# Altium schematic symbol library schematics_library_legacy.schlib: 96 symbols (part 2 of 4)
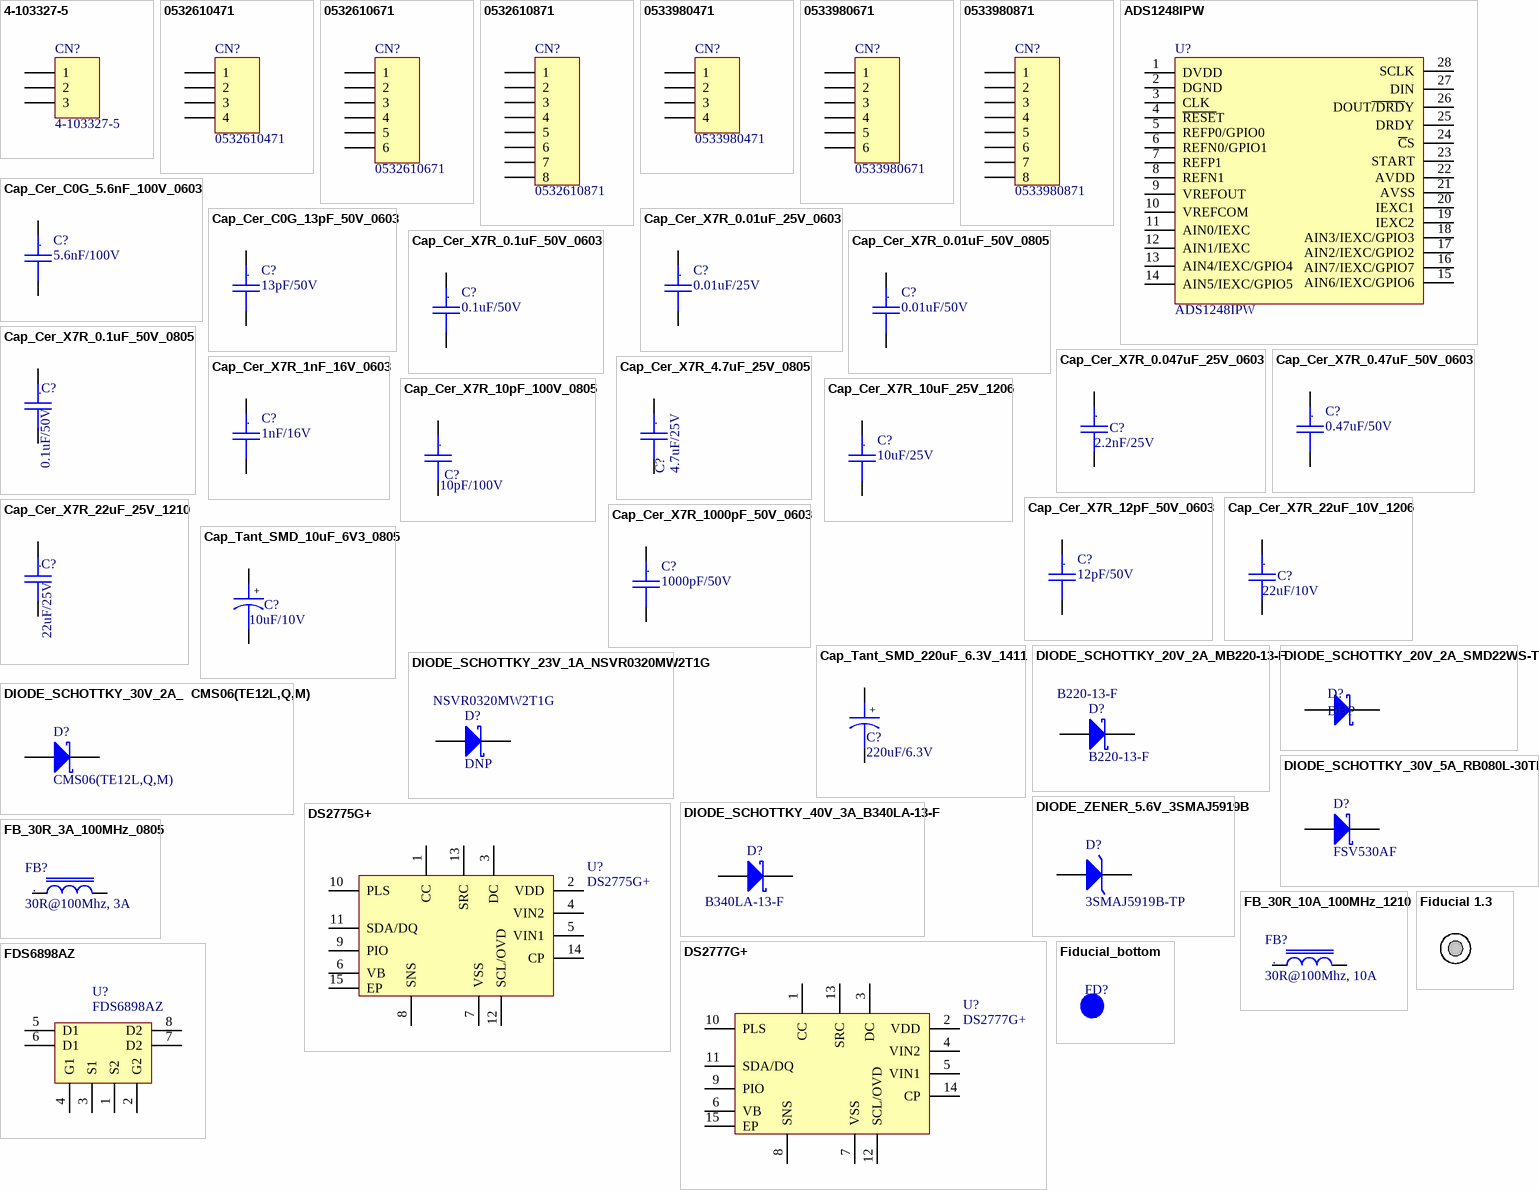
[diagram p3: symbols 4-103327-5 to Fiducial_bottom]

## Cap_Cer_X7R_22uF_25V_1210
designator C?, comment 22uF/25V
CAP CER 22uF 25V 10% X7R 1210; Partnumber: GRM32ER71E226KE15L; Manufacturer: Murata; Material: Ceramic; Supplier 1: Mouser; Supplier Part Number 1: 81-GRM32ER71E226KE5L; Stock 1: 169862; Pricing 1: 1=1.96, 10=1.54, 25=1.54, 100=1.15, 250=1.15, 500=0.876 (USD); Mount: Surface Mount; Case/Package: 1210; Number of Pins: 2; Case Code (Metric): 3225; Case Code (Imperial): 1210; Min Operating Temperature: -55°C; Max Operating Temperature: 125°C; Capacitance: 22uF; Tolerance: 10%; Dielectric: X7R; Voltage Rating: 25V; Packaging: Tape and Reel; Package Quantity: 1; Voltage Rating (DC): 25V; Termination: SMD/SMT; Voltage: 25V; Length: 3.2mm; Height: 2.5mm; Width: 0.098inch; Thickness: 0.106inch; Depth: 2.5mm; Radiation Hardening: No; REACH SVHC: No SVHC; Lead Free: Lead Free; ComponentLink1URL: http://www.farnell.com/datasheets/2048964.pdf?src-supplier=Farnell; ComponentLink1Description: http://www.farnell.com/datasheets/2048964.pdf?src-supplier=Farnell; ComponentLink2URL: http://psearch.murata.com/capacitor/product/GRM32ER71E226KE15%23.pdf?src-supplier=Future+Electronics; ComponentLink2Description: http://psearch.murata.com/capacitor/product/GRM32ER71E226KE15%23.pdf?src-supplier=Future+Electronics; ComponentLink3URL: https://www.murata.com/~/media/webrenewal/support/library/catalog/products/capacitor/mlcc/c02e.ashx?la=en-us&src-supplier=Digi-Key; ComponentLink3Description: https://www.murata.com/~/media/webrenewal/support/library/catalog/products/capacitor/mlcc/c02e.ashx?la=en-us&src-supplier=Digi-Key; ComponentLink4URL: http://components.arrow.com/part/dataview/47905228S8888111N2606?src-supplier=Arrow; ComponentLink4Description: http://components.arrow.com/part/dataview/47905228S8888111N2606?src-supplier=Arrow; ComponentLink5URL: http://www.farnell.com/datasheets/2048964.pdf?src-supplier=Element14; ComponentLink5Description: http://www.farnell.com/datasheets/2048964.pdf?src-supplier=Element14; ComponentLink6URL: http://uk.rs-online.com/webdocs/13d2/0900766b813d2caa.pdf?src-supplier=RSComponents; ComponentLink6Description: http://uk.rs-online.com/webdocs/13d2/0900766b813d2caa.pdf?src-supplier=RSComponents; ComponentLink7URL: https://produktinfo.conrad.com/datenblaetter/450000-474999/451826-da-01-de-VS_KONDENS_GRM32_ER71E_226KE15L.pdf?src-supplier=Conrad; ComponentLink7Description: https://produktinfo.conrad.com/datenblaetter/450000-474999/451826-da-01-de-VS_KONDENS_GRM32_ER71E_226KE15L.pdf?src-supplier=Conrad; Supplier 2: Digi-Key; Supplier Part Number 2: 490-5313-1-ND; Stock 2: 0; Pricing 2: 1=1.87, 10=1.479, 50=1.2816, 100=1.1091, 500=0.83802 (USD); Manufacturer Part Number: GRM32ER71E226KE15L
footprint CC1210 (TDK mlccspec_commercial_general_midvoltage_en.pdf)
pins: 1, 2
text: .

## Cap_Cer_X7R_1000pF_50V_0603
designator C?, comment 1000pF/50V
CAP CER 1000pF 50V 10% X7R 0603; Partnumber: CC0603KRX7R9BB102; Manufacturer: Yageo; Material: Ceramic; Capacitance: 1nF; Insulation Resistance: 100GR; NCM: 8532.24.10; Supplier 1: Mouser; Supplier Part Number 1: 603-CC603KRX7R9BB102; Stock 1: 411776; Pricing 1: 1=0.1, 10=0.039, 100=0.018, 1000=0.014, 4000=0.01, 8000=0.008 (USD); Mount: Surface Mount; Case/Package: 0603; Number of Pins: 2; Case Code (Metric): 1608; Case Code (Imperial): 0603; Min Operating Temperature: -55°C; Max Operating Temperature: 125°C; Tolerance: 10%; Dielectric: X7R; Voltage: 50V; Package Quantity: 1; Voltage Rating: 50V; Packaging: Tape and Reel; Voltage Rating (DC): 50V; Termination: SMD/SMT; Composition: Ceramic; Length: 1.6mm; Height: 0.8mm; Width: 0.031inch; Thickness: 0.035inch; Depth: 0.8mm; Radiation Hardening: No; REACH SVHC: No SVHC; Lead Free: Lead Free; Halogen Free: Halogen Free; ComponentLink1URL: http://www.yageo.com/documents/recent/UPY-GPHC_X7R_6.3V-to-50V_18.pdf?src-supplier=Digi-Key; ComponentLink1Description: http://www.yageo.com/documents/recent/UPY-GPHC_X7R_6.3V-to-50V_18.pdf?src-supplier=Digi-Key; ComponentLink2URL: http://www.yageo.com/documents/recent/UPY-GPHC_X7R_6.3V-to-50V_8.pdf?src-supplier=Avnet+Europe; ComponentLink2Description: http://www.yageo.com/documents/recent/UPY-GPHC_X7R_6.3V-to-50V_8.pdf?src-supplier=Avnet+Europe; ComponentLink3URL: https://www.verical.com/server-webapp/html/getDatasheet?partID=251790&src-supplier=Verical; ComponentLink3Description: https://www.verical.com/server-webapp/html/getDatasheet?partID=251790&src-supplier=Verical; ComponentLink4URL: http://www.farnell.com/datasheets/2167236.pdf?src-supplier=Element14; ComponentLink4Description: http://www.farnell.com/datasheets/2167236.pdf?src-supplier=Element14; ComponentLink5URL: https://produktinfo.conrad.com/datenblaetter/425000-449999/445532-da-01-en-KERKO_CHIP_0603_NP0_1000PF.pdf?src-supplier=Conrad; ComponentLink5Description: https://produktinfo.conrad.com/datenblaetter/425000-449999/445532-da-01-en-KERKO_CHIP_0603_NP0_1000PF.pdf?src-supplier=Conrad; Supplier 2: Digi-Key; Supplier Part Number 2: 311-1080-1-ND; Stock 2: 2512329; Pricing 2: 1=0.1, 10=0.042, 50=0.0232, 100=0.0189, 500=0.01352, 1000=0.01062 (USD); Manufacturer Part Number: CC0603KRX7R9BB102
footprint CC0603 (TDK mlccspec_commercial_general_midvoltage_en.pdf)
pins: 1, 2
text: .

## Cap_Tant_SMD_10uF_6V3_0805
designator C?, comment 10uF/10V
CAP Tantalum 10uF 6.3V 10% 0805; Partnumber: TPSR106K006R1000; Manufacturer: Kyocera AVX; ESR (Equivalent Series Resistance): 1R; Polarity: Polar; Dissipation Factor: 8%; NCM: 8532.21.11; Supplier 1: Mouser; Supplier Part Number 1: 581-TPSR106K006R1000; Stock 1: 0; Pricing 1: 1=0.76, 10=0.561, 100=0.384, 500=0.304, 1000=0.256, 2500=0.237 (USD); Mount: Surface Mount; Case/Package: 0805; Case Code (Metric): 2012; Case Code (Imperial): 0805; Dielectric Material: Tantalum; Min Operating Temperature: -55°C; Max Operating Temperature: 125°C; Capacitance: 10uF; Tolerance: 10%; Voltage Rating: 6.3V; Packaging: Tape and Reel; Package Quantity: 1; Termination: SMD/SMT; Features: General Purpose; Length: 2.05mm; Height: 1.2mm; Depth: 1.3mm; Width: 0.051inch; Height - Seated (Max): 0.047inch; Radiation Hardening: No; REACH SVHC: No SVHC; Lead Free: Lead Free; ComponentLink1URL: http://www.avx.com/docs/Catalogs/packmark.pdf?src-supplier=Element14; ComponentLink1Description: http://www.avx.com/docs/Catalogs/packmark.pdf?src-supplier=Element14; ComponentLink2URL: http://www.farnell.com/datasheets/1441576.pdf?src-supplier=Element14; ComponentLink2Description: http://www.farnell.com/datasheets/1441576.pdf?src-supplier=Element14; ComponentLink3URL: http://datasheets.avx.com/TPS.pdf?src-supplier=Digi-Key; ComponentLink3Description: http://datasheets.avx.com/TPS.pdf?src-supplier=Digi-Key; Supplier 2: Digi-Key; Supplier Part Number 2: 478-9265-1-ND; Stock 2: 0; Pricing 2: 1=0.73, 10=0.536, 50=0.429, 100=0.3678, 500=0.29114, 1000=0.24517 (USD); Manufacturer Part Number: TPSR106K006R1000
footprint CC0805_Tantalum (TDK mlccspec_commercial_general_midvoltage_en.pdf)
pins: 1, 2
text: +

## Cap_Tant_SMD_220uF_6.3V_1411
designator C?, comment 220uF/6.3V
CAP Tantalum 220uF 6.3V 20% 1411; Partnumber: 6TPE220MAZB; Manufacturer: Panasonic; ESR (Equivalent Series Resistance): 35mR; Ripple Current: 1.4A; Leakage Current: 138.6uA; Polarity: Polar; Dissipation Factor: 10%; NCM: 8532.21.11; Supplier 1: Mouser; Supplier Part Number 1: 667-6TPE220MAZB; Stock 1: 11237; Pricing 1: 1=1.63, 10=1.28, 100=0.964, 500=0.728, 1000=0.642, 2000=0.521 (USD); Mount: Surface Mount; Case/Package: Molded; Number of Pins: 2; Case Code (Metric): 3528; Case Code (Imperial): 1411; Min Operating Temperature: -55°C; Max Operating Temperature: 105°C; Capacitance: 220uF; Tolerance: 20%; Packaging: Tape and Reel; Voltage Rating: 6.3V; Package Quantity: 2000; Voltage Rating (DC): 6.3V; Termination: SMD/SMT; Voltage: 6.3V; Features: General Purpose; Length: 3.5mm; Height: 1.9mm; Width: 0.11inch; Height - Seated (Max): 0.079inch; Depth: 2.8mm; Radiation Hardening: No; REACH SVHC: No SVHC; Lead Free: Lead Free; ComponentLink1URL: http://www.farnell.com/datasheets/2059638.pdf?src-supplier=Element14; ComponentLink1Description: http://www.farnell.com/datasheets/2059638.pdf?src-supplier=Element14; ComponentLink2URL: https://www.verical.com/server-webapp/html/getDatasheet?partID=733772&src-supplier=Verical; ComponentLink2Description: https://www.verical.com/server-webapp/html/getDatasheet?partID=733772&src-supplier=Verical; ComponentLink3URL: https://www.distrelec.biz/Web/Downloads/_t/ds/tpe-series_eng_tds.pdf?mime=application%2Fpdf&src-supplier=Distrelec; ComponentLink3Description: https://www.distrelec.biz/Web/Downloads/_t/ds/tpe-series_eng_tds.pdf?mime=application%2Fpdf&src-supplier=Distrelec; ComponentLink4URL: http://industrial.panasonic.com/www-data/pdf/AAA8000/AAA8000CE5.pdf?src-supplier=Avnet; ComponentLink4Description: http://industrial.panasonic.com/www-data/pdf/AAA8000/AAA8000CE5.pdf?src-supplier=Avnet; ComponentLink5URL: http://www.mouser.com/ds/2/315/AAA8000C36-947358.pdf?src-supplier=Mouser; ComponentLink5Description: http://www.mouser.com/ds/2/315/AAA8000C36-947358.pdf?src-supplier=Mouser; Supplier 2: Digi-Key; Supplier Part Number 2: P16245CT-ND; Stock 2: 59078; Pricing 2: 1=1.56, 10=1.23, 50=1.0656, 100=0.9222, 500=0.69676, 1000=0.61479 (USD); Manufacturer Part Number: 6TPE220MAZB
footprint CC1411 _Tantalum
pins: 1, 2
text: +

## DIODE_SCHOTTKY_20V_2A_MB220-13-F
designator D?, comment B220-13-F
DIODE SCHOTTKY 20V 2A B220-13-F; Manufacturer: Diodes; Peak Reverse Current: 500uA; Peak Non-Repetitive Surge Current: 50A; Element Configuration: Single; Forward Voltage: 500mV; Polarity: Standard; Capacitance: 200pF; NCM: 8541.10.29; Partnumber: B220-13-F; Supplier 1: Mouser; Supplier Part Number 1: 621-B220-F; Stock 1: 3454; Pricing 1: 1=0.45, 10=0.289, 100=0.124, 1000=0.095, 3000=0.072, 9000=0.064 (USD); Mount: Surface Mount; Case/Package: SMB; Number of Pins: 2; Weight: 0.00328oz; Contact Plating: Tin,Matte; Min Operating Temperature: -65°C; Max Operating Temperature: 150°C; Forward Current: 2A; Max Repetitive Reverse Voltage (Vrrm): 20V; Package Quantity: 3000; Packaging: Tape and Reel; Average Rectified Current: 2A; Max Forward Surge Current (Ifsm): 50A; Termination: SMD/SMT; Voltage Rating (DC): 20V; Current Rating: 2A; Output Current: 2A; Max Reverse Voltage (DC): 20V; Length: 4.57mm; Height: 2.62mm; Width: 3.94mm; Radiation Hardening: No; REACH SVHC: No SVHC; Lead Free: Lead Free; ComponentLink1URL: http://www.diodes.com/datasheets/ds13004.pdf?src-supplier=Future+Electronics; ComponentLink1Description: http://www.diodes.com/datasheets/ds13004.pdf?src-supplier=Future+Electronics; ComponentLink2URL: http://www.diodes.com/datasheets/ds13004.pdf?src-supplier=Avnet; ComponentLink2Description: http://www.diodes.com/datasheets/ds13004.pdf?src-supplier=Avnet; Supplier 2: Digi-Key; Supplier Part Number 2: B220-FDICT-ND; Stock 2: 5768; Pricing 2: 1=0.46, 10=0.339, 25=0.2968, 100=0.1612, 250=0.16036, 500=0.1315, 1000=0.09757 (USD); Manufacturer Part Number: B220-13-F
footprint DO-214AA
pins: 1 K, 2 A

## DIODE_SCHOTTKY_20V_2A_SMD22WS-TP
designator D?, comment DNP
Diode Schottky 20 V 2A Surface Mount SOD-323; Partnumber: SMD22WS-TP
footprint SOD323F
pins: 1 K, 2 A

## DIODE_SCHOTTKY_23V_1A_NSVR0320MW2T1G
designator D?, comment DNP  Manufacturer Part Number: NSVR0320MW2T1G
DIODE SCHOTTKY 23V 1A SOD323F; Manufacturer: ON Semiconductor; Peak Reverse Current: 50uA; Forward Voltage: 500mV; Max Surge Current: 5A; Max Reverse Leakage Current: 1mA; Max Repetitive Reverse Voltage (Vrrm): 20V; Element Configuration: Single; NCM: 8541.10.29; Partnumber: NSVR0320MW2T1G; Supplier 1: Mouser; Supplier Part Number 1: 863-NSVR0320MW2T1G; Stock 1: 10408; Pricing 1: 1=0.38, 10=0.254, 100=0.118, 1000=0.092, 3000=0.081, 9000=0.071 (USD); Case/Package: SOD-323-2; Number of Pins: 2; Min Operating Temperature: -55°C; Max Operating Temperature: 125°C; Forward Current: 1A; Package Quantity: 3000; Packaging: Tape and Reel; Average Rectified Current: 1A; Max Forward Surge Current (Ifsm): 5A; Max Reverse Voltage (DC): 20V; Length: 1.8mm; Height: 0.9mm; Width: 1.35mm; Radiation Hardening: No; REACH SVHC: No SVHC; Lead Free: Lead Free; ComponentLink1URL: http://www.onsemi.com/pub/Collateral/NSR0320MW2T1-D.PDF?src-supplier=Avnet; ComponentLink1Description: http://www.onsemi.com/pub/Collateral/NSR0320MW2T1-D.PDF?src-supplier=Avnet; ComponentLink2URL: http://www.onsemi.com/pub/Collateral/NSR0320MW2T1-D.PDF?src-supplier=Digi-Key; ComponentLink2Description: http://www.onsemi.com/pub/Collateral/NSR0320MW2T1-D.PDF?src-supplier=Digi-Key; Supplier 2: Digi-Key; Supplier Part Number 2: NSVR0320MW2T1GOSCT-ND; Stock 2: 4746; Pricing 2: 1=0.38, 10=0.282, 25=0.2548, 100=0.1343, 250=0.13288, 500=0.119, 1000=0.0926 (USD)
footprint SOD323F
pins: 1 K, 2 A

## DIODE_SCHOTTKY_30V_2A_  CMS06(TE12L,Q,M)
designator D?, comment CMS06(TE12L,Q,M)
DIODE SCHOTTKY 30V 2A   CMS06(TE12L,Q,M); Manufacturer: Toshiba; Peak Reverse Current: 3mA; Max Surge Current: 40A; Forward Voltage: 370mV; Element Configuration: Single; NCM: 8541.10.29; Partnumber: CMS06(TE12L,Q,M); Supplier 1: Mouser; Supplier Part Number 1: 757-CMS06TE12L,Q,M; Stock 1: 121; Pricing 1: 1=0.54, 10=0.464, 100=0.321, 500=0.25, 1000=0.203, 3000=0.186 (USD); Mount: Surface Mount; Number of Pins: 2; Contact Plating: Tin,Silver; Min Operating Temperature: -40°C; Max Operating Temperature: 125°C; Package Quantity: 1; Packaging: Tape and Reel; Forward Current: 2A; Average Rectified Current: 2A; Max Reverse Leakage Current: 3mA; Max Repetitive Reverse Voltage (Vrrm): 30V; Peak Non-Repetitive Surge Current: 40A; Max Reverse Voltage (DC): 30V; Radiation Hardening: No; ComponentLink1URL: http://toshiba.semicon-storage.com/info/docget.jsp?did=3138&prodName=CMS06&src-supplier=Digi-Key; ComponentLink1Description: http://toshiba.semicon-storage.com/info/docget.jsp?did=3138&prodName=CMS06&src-supplier=Digi-Key; ComponentLink2URL: http://www.semicon.toshiba.com.tw/info/docget.jsp?pid=CMS06&lang=en&type=datasheet&src-supplier=Avnet; ComponentLink2Description: http://www.semicon.toshiba.com.tw/info/docget.jsp?pid=CMS06&lang=en&type=datasheet&src-supplier=Avnet; ComponentLink3URL: http://datasheet.iiic.cc/toshiba/CMS06_TE12L,Q,M_.pdf?src-supplier=IIIC; ComponentLink3Description: http://datasheet.iiic.cc/toshiba/CMS06_TE12L,Q,M_.pdf?src-supplier=IIIC; Supplier 2: Digi-Key; Supplier Part Number 2: CMS06QMCT-ND; Stock 2: 29658; Pricing 2: 1=0.53, 10=0.45, 25=0.42, 100=0.312, 250=0.2964, 500=0.2436, 1000=0.198 (USD); Manufacturer Part Number: CMS06(TE12L,Q,M)
footprint cms06
pins: 1 K, 2 A

## DIODE_SCHOTTKY_30V_5A_RB080L-30TE25
designator D?, comment FSV530AF
DIODE SCHOTTKY 30V 5A DO-214AA; Manufacturer: ON Semiconductor / Fairchild; Reverse Recovery Time: 15.72ns; Element Configuration: Single; Max Forward Surge Current (Ifsm): 100A; NCM: 8541.10.29; Partnumber: FSV530AF; Supplier 1: Mouser; Supplier Part Number 1: 512-FSV530AF; Stock 1: 19843; Pricing 1: 1=0.47, 10=0.348, 100=0.202, 1000=0.137, 2500=0.121, 10000=0.117 (USD); Mount: Surface Mount; Weight: 0.33g; Packaging: Cut Tape; Average Rectified Current: 5A; Max Repetitive Reverse Voltage (Vrrm): 30V; Max Reverse Voltage (DC): 30V; Lead Free: Lead Free; ComponentLink1URL: https://www.fairchildsemi.com/datasheets/FS/FSV530AF.pdf?src-supplier=Digi-Key; ComponentLink1Description: https://www.fairchildsemi.com/datasheets/FS/FSV530AF.pdf?src-supplier=Digi-Key; ComponentLink2URL: http://www.farnell.com/datasheets/2552640.pdf?src-supplier=Farnell; ComponentLink2Description: http://www.farnell.com/datasheets/2552640.pdf?src-supplier=Farnell; ComponentLink3URL: http://www.farnell.com/datasheets/2552640.pdf?src-supplier=Element14; ComponentLink3Description: http://www.farnell.com/datasheets/2552640.pdf?src-supplier=Element14; Supplier 2: Digi-Key; Supplier Part Number 2: FSV530AFCT-ND; Stock 2: 9965; Pricing 2: 1=0.47, 10=0.381, 25=0.3484, 100=0.2187, 250=0.21628, 500=0.2025, 1000=0.1377, 2500=0.13203, 5000=0.1215 (USD); Manufacturer Part Number: FSV530AF
footprint DO-214AC
pins: 1 K, 2 A

## DIODE_SCHOTTKY_40V_3A_B340LA-13-F
designator D?, comment B340LA-13-F
DIODE SCHOTTKY 40V 3A B340LA-13-F; Manufacturer: Diodes; Peak Reverse Current: 2mA; Peak Non-Repetitive Surge Current: 70A; Element Configuration: Single; Forward Voltage: 450mV; Polarity: Standard; Capacitance: 180pF; NCM: 8541.10.29; Partnumber: B340LA-13-F; Supplier 1: Mouser; Supplier Part Number 1: 621-B340LA-F; Stock 1: 21204; Pricing 1: 1=0.51, 10=0.417, 100=0.255, 1000=0.197, 5000=0.168, 10000=0.168 (USD); Mount: Surface Mount; Case/Package: SMA; Number of Pins: 2; Weight: 0.002258oz; Min Operating Temperature: -55°C; Max Operating Temperature: 125°C; Forward Current: 3A; Max Repetitive Reverse Voltage (Vrrm): 40V; Packaging: Tape and Reel; Package Quantity: 5000; Average Rectified Current: 3A; Max Forward Surge Current (Ifsm): 70A; Termination: SMD/SMT; Voltage Rating (DC): 40V; Current Rating: 3A; Output Current: 3A; Max Reverse Voltage (DC): 40V; Length: 4.6mm; Height: 2.1mm; Width: 2.92mm; Radiation Hardening: No; REACH SVHC: No SVHC; Lead Free: Lead Free; ComponentLink1URL: http://www.farnell.com/datasheets/2238478.pdf?src-supplier=Element14; ComponentLink1Description: http://www.farnell.com/datasheets/2238478.pdf?src-supplier=Element14; ComponentLink2URL: http://www.diodes.com/datasheets/ds30240.pdf?src-supplier=Future+Electronics; ComponentLink2Description: http://www.diodes.com/datasheets/ds30240.pdf?src-supplier=Future+Electronics; ComponentLink3URL: http://www.jameco.com/Jameco/Products/ProdDS/1538881.pdf?src-supplier=Jameco; ComponentLink3Description: http://www.jameco.com/Jameco/Products/ProdDS/1538881.pdf?src-supplier=Jameco; ComponentLink4URL: https://www.diodes.com/assets/Datasheets/ds30240.pdf?src-supplier=Digi-Key; ComponentLink4Description: https://www.diodes.com/assets/Datasheets/ds30240.pdf?src-supplier=Digi-Key; ComponentLink5URL: https://www.verical.com/server-webapp/html/getDatasheet?partID=256588&src-supplier=Verical; ComponentLink5Description: https://www.verical.com/server-webapp/html/getDatasheet?partID=256588&src-supplier=Verical; Supplier 2: Digi-Key; Supplier Part Number 2: B340LA-FDICT-ND; Stock 2: 96615; Pricing 2: 1=0.4, 10=0.341, 25=0.318, 100=0.2363, 250=0.22452, 500=0.18452, 1000=0.14999, 2500=0.1409 (USD); Manufacturer Part Number: B340LA-13-F
footprint DO-214AC
pins: 1 K, 2 A

## DIODE_ZENER_5.6V_3SMAJ5919B
designator D?, comment 3SMAJ5919B-TP
DIODE ZENER 5.6V 3W DO214AC; Manufacturer: MCC; Tolerance: 5%; Impedance: 2R; Max Reverse Leakage Current: 5uA; Element Configuration: Single; Zener Current: 534mA; Partnumber: 3SMAJ5919B-TP; NCM: 8541.10.29; Supplier 1: Mouser; Supplier Part Number 1: 833-3SMAJ5919B-TP; Stock 1: 26433; Pricing 1: 1=0.48, 10=0.354, 100=0.225, 500=0.199, 1000=0.143, 2500=0.134 (USD); Mount: Surface Mount; Case/Package: SMA; Number of Pins: 2; Min Operating Temperature: -55°C; Max Operating Temperature: 150°C; Package Quantity: 7500; Packaging: Tape and Reel; Zener Voltage: 5.6V; Max Power Dissipation: 3W; Voltage Tolerance: 5%; Power Dissipation: 3W; ComponentLink1URL: http://www.mccsemi.com/up_pdf/3SMAJ5913B~3SMAJ5943B(DO-214AC).pdf?src-supplier=Digi-Key; ComponentLink1Description: http://www.mccsemi.com/up_pdf/3SMAJ5913B~3SMAJ5943B(DO-214AC).pdf?src-supplier=Digi-Key; Supplier 2: Digi-Key; Supplier Part Number 2: 3SMAJ5919B-TPMSCT-ND; Stock 2: 61482; Pricing 2: 1=0.46, 10=0.376, 25=0.344, 100=0.216, 250=0.2136, 500=0.2, 1000=0.136, 2500=0.1304 (USD); Manufacturer Part Number: 3SMAJ5919B-TP
footprint DO-214AC
pins: 1 K, 2 A

## DS2775G+
designator U?
IC FUEL GAUGE LI+ 2CELL 14-TDFN; Manufacturer: Maxim; Output Voltage: 4.7V; Operating Supply Current: 80uA; Min Supply Voltage: 4V; Max Supply Voltage: 9.2V; Interface: Serial; Partnumber: DS2775G+; Supplier 1: Mouser; Supplier Part Number 1: 700-DS2775G; Stock 1: 0; Mount: Surface Mount; Case/Package: DFN; Number of Pins: 14; Min Operating Temperature: -20°C; Max Operating Temperature: 70°C; Packaging: Rail/Tube; Package Quantity: 60; Radiation Hardening: No; REACH SVHC: Unknown; ComponentLink1URL: http://datasheets.maximintegrated.com/en/ds/DS2775-DS2778.pdf?src-supplier=Digi-Key; ComponentLink1Description: http://datasheets.maximintegrated.com/en/ds/DS2775-DS2778.pdf?src-supplier=Digi-Key; ComponentLink2URL: http://datasheets.maxim-ic.com/en/ds/DS2775-DS2778.pdf?src-supplier=Avnet+Europe; ComponentLink2Description: http://datasheets.maxim-ic.com/en/ds/DS2775-DS2778.pdf?src-supplier=Avnet+Europe; Supplier 2: Digi-Key; Supplier Part Number 2: DS2775G+-ND; Stock 2: 193; Pricing 2: 1=5.92, 10=5.35, 25=5.1008, 100=4.2299, 250=3.85672, 500=3.8256 (USD); Manufacturer Part Number: DS2775G+
footprint TDFN-14-EP_3x5 (Footprint not found)
pins: 1 CC, 2 VDD, 3 DC, 4 VIN2, 5 VIN1, 6 VB, 7 VSS, 8 SNS, 9 PIO, 10 PLS, 11 SDA/DQ, 12 SCL/OVD, 13 SRC, 14 CP, 15 EP

## DS2777G+
designator U?
Battery Management 2-Cell, Stand-Alone, Li+ Fuel-Gauge IC with Protector and Optional SHA-1 Authentication; Manufacturer: Maxim; Manufacturer Part Number: DS2775G+; Output Voltage: 4.7V; Operating Supply Current: 80uA; Min Supply Voltage: 4V; Max Supply Voltage: 9.2V; Interface: Serial; Partnumber: DS2777G+; Supplier 1: Mouser; Supplier Part Number 1: 700-DS2775G; Stock 1: 0; Mount: Surface Mount; Case/Package: DFN; Number of Pins: 14; Min Operating Temperature: -20°C; Max Operating Temperature: 70°C; Packaging: Rail/Tube; Package Quantity: 60; Radiation Hardening: No; REACH SVHC: Unknown; ComponentLink1URL: http://datasheets.maximintegrated.com/en/ds/DS2775-DS2778.pdf?src-supplier=Digi-Key; ComponentLink1Description: http://datasheets.maximintegrated.com/en/ds/DS2775-DS2778.pdf?src-supplier=Digi-Key; ComponentLink2URL: http://datasheets.maxim-ic.com/en/ds/DS2775-DS2778.pdf?src-supplier=Avnet+Europe; ComponentLink2Description: http://datasheets.maxim-ic.com/en/ds/DS2775-DS2778.pdf?src-supplier=Avnet+Europe; Supplier 2: Digi-Key; Supplier Part Number 2: DS2775G+-ND; Stock 2: 193; Pricing 2: 1=5.92, 10=5.35, 25=5.1008, 100=4.2299, 250=3.85672, 500=3.8256 (USD)
footprint TDFN-14-EP_3x5 (Footprint not found)
pins: 1 CC, 2 VDD, 3 DC, 4 VIN2, 5 VIN1, 6 VB, 7 VSS, 8 SNS, 9 PIO, 10 PLS, 11 SDA/DQ, 12 SCL/OVD, 13 SRC, 14 CP, 15 EP

## FB_30R_3A_100MHz_0805
designator FB?, comment 30R@100Mhz, 3A
Ferrite Bead 30 OHM 3A 100MHz; Partnumber: BLM21PG300SN1D; Manufacturer: Murata; Material: Steel,Ferrite; Impedance: 30R; DC Resistance (DCR): 14mR; Resistance: 15mR; Tolerance: 25%; Max Current Rating: 4A; Number of Lines: 1; Shielding: Unshielded; NCM: 8504.50.00; Supplier 1: Mouser; Supplier Part Number 1: 81-BLM21P300S; Stock 1: 86637; Pricing 1: 1=0.11, 10=0.06, 100=0.041, 500=0.037, 1000=0.03, 4000=0.028 (USD); Case/Package: 0805; Number of Pins: 2; Core Material: Ferrite; Case Code (Metric): 2012; Case Code (Imperial): 0805; Min Operating Temperature: -55°C; Max Operating Temperature: 125°C; Max DC Current: 3A; Package Quantity: 1; Packaging: Tape and Reel; Current Rating: 4A; Termination: SMD/SMT; Test Frequency: 100MHz; DC Current: 3A; Military Standard: Not; Frequency: 100MHz; Number of Circuits: 1; Length: 2mm; Height: 0.85mm; Depth: 1.25mm; Width: 1.25mm; Radiation Hardening: No; REACH SVHC: No SVHC; Lead Free: Lead Free; ComponentLink1URL: http://uk.rs-online.com/webdocs/002e/0900766b8002e1f1.pdf?src-supplier=RSComponents; ComponentLink1Description: http://uk.rs-online.com/webdocs/002e/0900766b8002e1f1.pdf?src-supplier=RSComponents; ComponentLink2URL: https://www.murata.com/en-us/products/productdata/8796738977822/ENFA0005.pdf?src-supplier=Digi-Key; ComponentLink2Description: https://www.murata.com/en-us/products/productdata/8796738977822/ENFA0005.pdf?src-supplier=Digi-Key; ComponentLink3URL: http://search.murata.co.jp/Ceramy/image/img/PDF/ENG/L0110S0100BLM21P.pdf?src-supplier=Avnet+Europe; ComponentLink3Description: http://search.murata.co.jp/Ceramy/image/img/PDF/ENG/L0110S0100BLM21P.pdf?src-supplier=Avnet+Europe; ComponentLink4URL: http://search.murata.co.jp/Ceramy/image/img/PDF/ENG/L0110S0100BLM21P.pdf?src-supplier=Avnet; ComponentLink4Description: http://search.murata.co.jp/Ceramy/image/img/PDF/ENG/L0110S0100BLM21P.pdf?src-supplier=Avnet; ComponentLink5URL: http://www.murata.com/en-global/api/pdfdownloadapi?cate=luNoiseSupprFilteChipFerriBead&partno=BLM21PG300SN1%23&src-supplier=Future+Electronics; ComponentLink5Description: http://www.murata.com/en-global/api/pdfdownloadapi?cate=luNoiseSupprFilteChipFerriBead&partno=BLM21PG300SN1%23&src-supplier=Future+Electronics; ComponentLink6URL: http://www.jameco.com/Jameco/Products/ProdDS/1845339.pdf?src-supplier=Jameco; ComponentLink6Description: http://www.jameco.com/Jameco/Products/ProdDS/1845339.pdf?src-supplier=Jameco; ComponentLink7URL: http://www.farnell.com/datasheets/1756152.pdf?src-supplier=Element14; ComponentLink7Description: http://www.farnell.com/datasheets/1756152.pdf?src-supplier=Element14; ComponentLink8URL: http://www.produktinfo.conrad.com/datenblaetter/1100000-1199999/001172365-da-01-en-DROSSEL_0805_30R0_2_0X1_25MM_4000ST.pdf?src-supplier=Conrad; ComponentLink8Description: http://www.produktinfo.conrad.com/datenblaetter/1100000-1199999/001172365-da-01-en-DROSSEL_0805_30R0_2_0X1_25MM_4000ST.pdf?src-supplier=Conrad; Supplier 2: Digi-Key; Supplier Part Number 2: 490-1052-1-ND; Stock 2: 46682; Pricing 2: 1=0.11, 10=0.093, 25=0.0724, 50=0.06, 100=0.0517, 250=0.04136, 500=0.03722, 1000=0.03102 (USD); Manufacturer Part Number: BLM21PG300SN1D
footprint IND0805
pins: 1, 2
text: .

## FB_30R_10A_100MHz_1210
designator FB?, comment 30R@100Mhz, 10A
Ferrite Bead 30 OHM 10A 100MHz; Partnumber: BLE32PN300SN1L; Manufacturer: Murata; Impedance: 30R; Resistance: 10R; Number of Lines: 1; DC Resistance (DCR): 1.6mR; NCM: 8504.50.00; Supplier 1: Mouser; Supplier Part Number 1: 81-BLE32PN300SN1L; Stock 1: 0; Pricing 1: 1=0.8, 10=0.663, 25=0.532, 50=0.504, 100=0.448, 250=0.42 (USD); Mount: Surface Mount; Case/Package: 1210; Weight: 0.000564oz; Core Material: Ferrite; Case Code (Metric): 3225; Case Code (Imperial): 1210; Min Operating Temperature: -55°C; Max Operating Temperature: 125°C; Packaging: Tape and Reel; Package Quantity: 1500; Max Current Rating: 10A; Max DC Current: 10A; Termination: SMD/SMT; Length: 0.126inch; Height: 0.087inch; Width: 0.098inch; Depth: 2.5mm; Radiation Hardening: No; ComponentLink1URL: http://search.murata.co.jp/Ceramy/image/img/PDF/ENG/L0110S0100BLE32P.pdf?src-supplier=Avnet; ComponentLink1Description: http://search.murata.co.jp/Ceramy/image/img/PDF/ENG/L0110S0100BLE32P.pdf?src-supplier=Avnet; Supplier 2: Digi-Key; Supplier Part Number 2: 490-9566-1-ND; Stock 2: 11710; Pricing 2: 1=0.84, 10=0.756, 25=0.5604, 50=0.5324, 100=0.4763, 250=0.44828, 500=0.42026 (USD); Manufacturer Part Number: BLE32PN300SN1L
footprint IND1210
pins: 1, 2
text: .

## FDS6898AZ
designator U?
MOSFET 2N-CH 20V 9.4A 8SOIC; Manufacturer: ON Semiconductor / Fairchild; Input Capacitance: 1.821nF; Max Power Dissipation: 2W; Rds On Max: 14mR; FET Type: 2 N-Channel; Number of Elements: 2; Rise Time: 15ns; Fall Time: 16ns; Turn-Off Delay Time: 34ns; Turn-On Delay Time: 10ns; Element Configuration: Dual; Gate to Source Voltage (Vgs): 12V; Nominal Vgs: 1V; Partnumber: FDS6898AZ; Supplier 1: Mouser; Supplier Part Number 1: 512-FDS6898AZ; Stock 1: 4140; Pricing 1: 1=0.95, 10=0.809, 100=0.607, 250=0.588, 500=0.514, 1000=0.419 (USD); Mount: Surface Mount; Case/Package: SOIC; Number of Pins: 8; Weight: 0.187g; Contact Plating: Tin,Matte; Min Operating Temperature: -55°C; Max Operating Temperature: 150°C; Packaging: Tape and Reel; Drain to Source Voltage (Vdss): 20V; Continuous Drain Current (ID): 9.4A; Package Quantity: 2500; Power Dissipation: 2W; Drain to Source Breakdown Voltage: 20V; Drain to Source Resistance: 14mR; Voltage Rating (DC): 20V; Current Rating: 9.4A; Dual Supply Voltage: 20V; Threshold Voltage: 1V; Termination: SMD/SMT; On-State Resistance: 14MR; Length: 5mm; Height: 1.5mm; Width: 4mm; Lead Free: Lead Free; REACH SVHC: No SVHC; ComponentLink1URL: http://www.farnell.com/datasheets/78816.pdf?src-supplier=Element14; ComponentLink1Description: http://www.farnell.com/datasheets/78816.pdf?src-supplier=Element14; ComponentLink2URL: http://www.jameco.com/Jameco/Products/ProdDS/2036226.pdf?src-supplier=Jameco; ComponentLink2Description: http://www.jameco.com/Jameco/Products/ProdDS/2036226.pdf?src-supplier=Jameco; ComponentLink3URL: https://www.fairchildsemi.com/datasheets/FD/FDS6898AZ.pdf?src-supplier=Avnet+Europe; ComponentLink3Description: https://www.fairchildsemi.com/datasheets/FD/FDS6898AZ.pdf?src-supplier=Avnet+Europe; ComponentLink4URL: http://www.fairchildsemi.com/ds/FD/FDS6898AZ.pdf?src-supplier=Future+Electronics; ComponentLink4Description: http://www.fairchildsemi.com/ds/FD/FDS6898AZ.pdf?src-supplier=Future+Electronics; ComponentLink5URL: https://www.fairchildsemi.com/datasheets/FD/FDS6898AZ.pdf?src-supplier=Avnet; ComponentLink5Description: https://www.fairchildsemi.com/datasheets/FD/FDS6898AZ.pdf?src-supplier=Avnet; ComponentLink6URL: http://www.fairchildsemi.com/datasheets/FD/FDS6898AZ.pdf?src-supplier=Digi-Key; ComponentLink6Description: http://www.fairchildsemi.com/datasheets/FD/FDS6898AZ.pdf?src-supplier=Digi-Key; ComponentLink7URL: https://www.fairchildsemi.com/datasheets/FD/FDS6898AZ.pdf?src-supplier=Digi-Key; ComponentLink7Description: https://www.fairchildsemi.com/datasheets/FD/FDS6898AZ.pdf?src-supplier=Digi-Key; ComponentLink8URL: http://www.mouser.com/ds/2/149/FDS6898AZ-52419.pdf?src-supplier=Mouser; ComponentLink8Description: http://www.mouser.com/ds/2/149/FDS6898AZ-52419.pdf?src-supplier=Mouser; ComponentLink9URL: http://www.farnell.com/datasheets/78816.pdf?src-supplier=Farnell; ComponentLink9Description: http://www.farnell.com/datasheets/78816.pdf?src-supplier=Farnell; ComponentLink10URL: http://datasheet.iiic.cc/fairchild/FDS6898AZ.pdf?src-supplier=IIIC; ComponentLink10Description: http://datasheet.iiic.cc/fairchild/FDS6898AZ.pdf?src-supplier=IIIC; Supplier 2: Digi-Key; Supplier Part Number 2: FDS6898AZCT-ND; Stock 2: 0; Pricing 2: 1=0.95, 10=0.853, 25=0.8096, 100=0.6071, 250=0.60132, 500=0.5146, 1000=0.4192 (USD); Manufacturer Part Number: FDS6898AZ
footprint SOIC-8 (SOIC, 8-Leads, Body 4,89x3,90mm, Pitch 1,27mm, IPC Medium Density)
pins: 1 S2, 2 G2, 3 S1, 4 G1, 5 D1, 6 D1, 7 D2, 8 D2

## Fiducial 1.3
designator FD?  (value not drawn)  (no BOM)
Fiducial 1.3mm
footprint Fiducial 1.3mm

## Fiducial_bottom
designator FD?, comment Bottom fiducial  (value not drawn)  (no BOM)
Single sided fiducial (bottom)
footprint Fiducial_Bottom_1.3mm

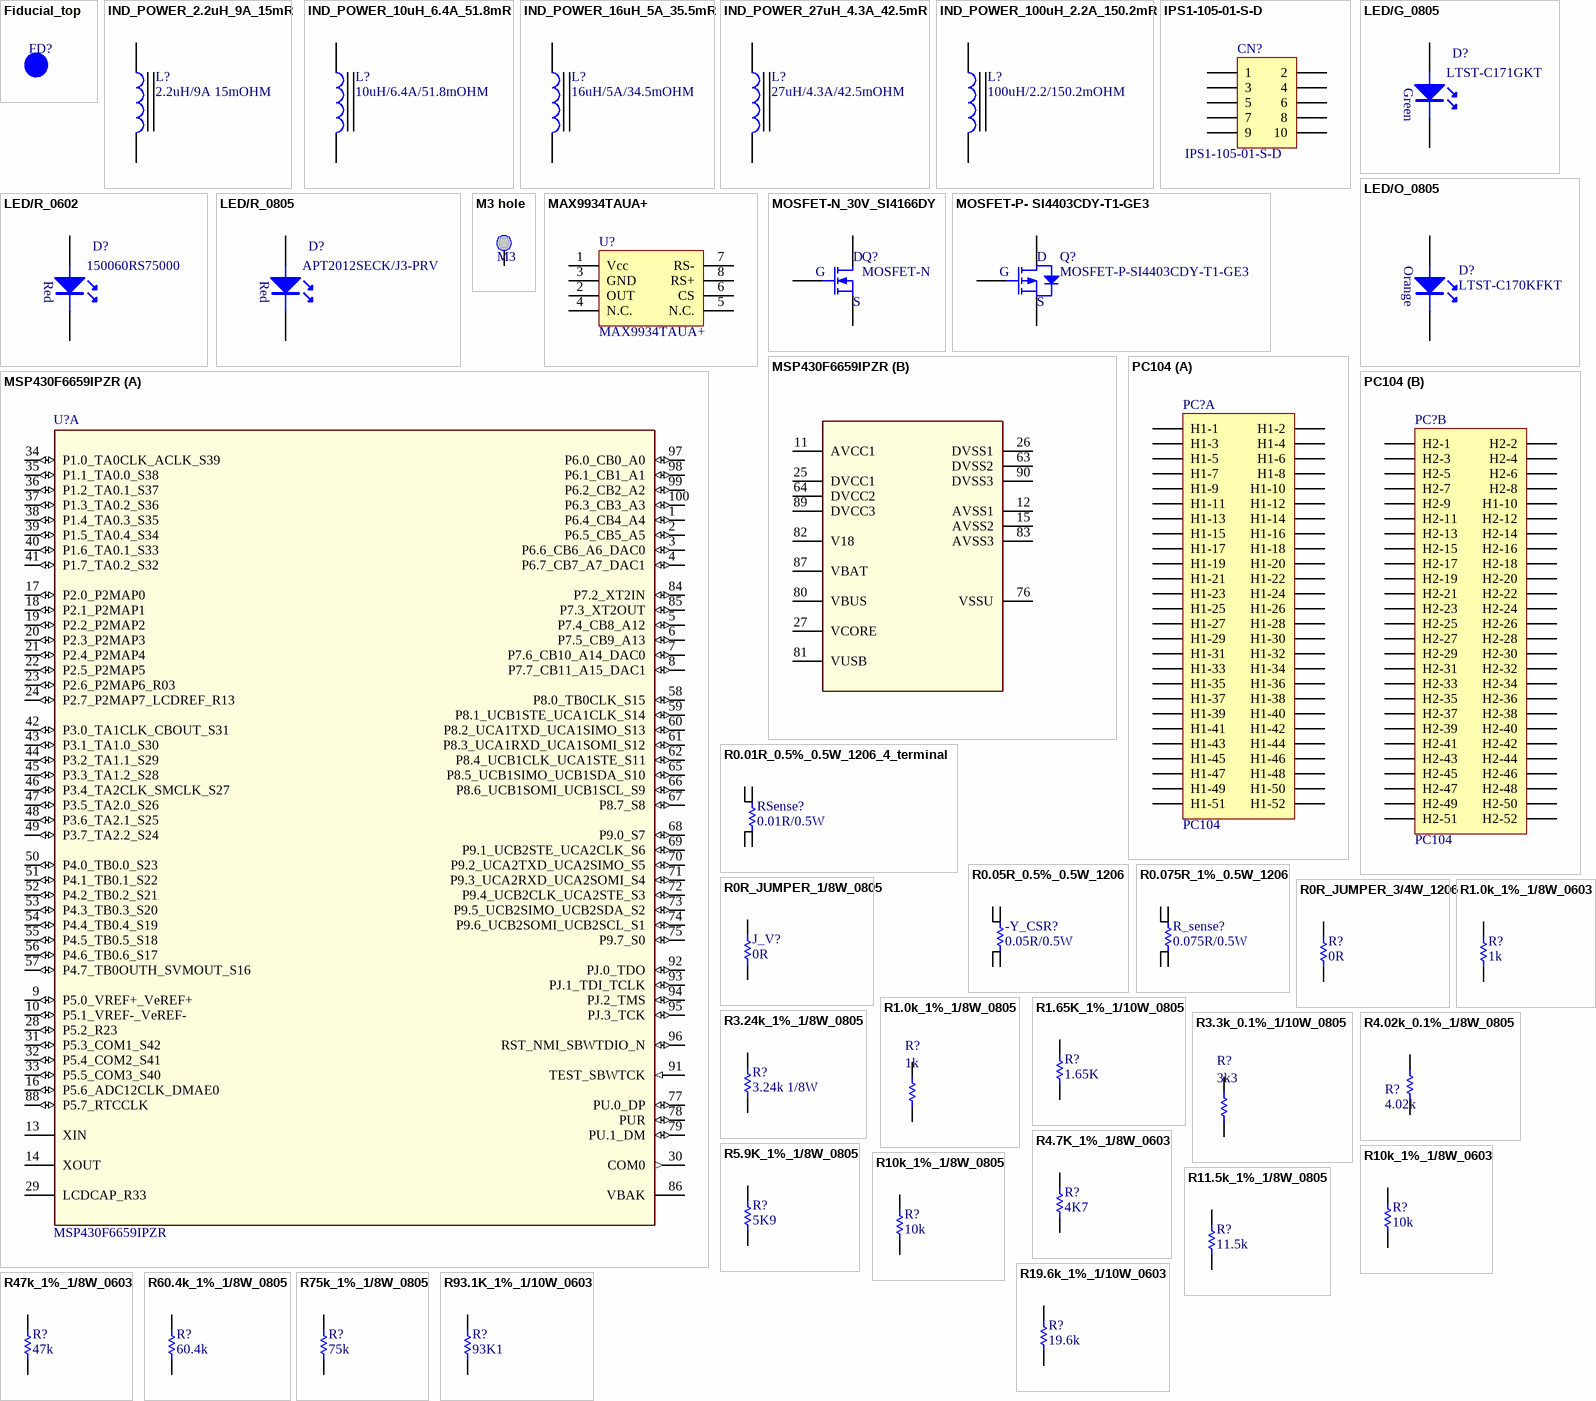
[diagram p1: symbols Fiducial_top to R93.1K_1%_1/10W_0603]

## Fiducial_top
designator FD?, comment Top fiducial  (value not drawn)  (no BOM)
Single sided fiducial (top)
footprint Fiducial_Top_1.3mm

## IND_POWER_2.2uH_9A_15mR
designator L?, comment 2.2uH/9A 15mOHM
INDUCTOR 2.2UH 9A SMD; Partnumber: SRP6540-2R2M; Manufacturer: Bourns; Core Material: Ferrite; Tolerance: 20%; Shielding: Shielded; DC Resistance (DCR): 15.5mR; Test Frequency: 100kHz; NCM: 8504.50.00; Supplier 1: Mouser; Supplier Part Number 1: 652-SRP6540-2R2M; Stock 1: 1265; Pricing 1: 1=1.2, 10=1.14, 50=0.953, 100=0.878, 250=0.801, 500=0.672 (USD); Mount: Surface Mount; Case/Package: 2826; Material: Ferrite; Min Operating Temperature: -55°C; Max Operating Temperature: 125°C; Packaging: Tape and Reel; Package Quantity: 1200; Current Rating: 9A; Saturation Current: 9A; Inductance Tolerance: 20%; Inductance: 2.2uH; Max DC Current: 9A; Termination: SMD/SMT; Composition: Wirewound; Self Resonant Frequency: 100kHz; RMS Current (Irms): 9A; Military Standard: Not; Length: 7.2mm; Height: 4mm; Width: 6.5mm; Height - Seated (Max): 0.157inch; Depth: 6.7mm; REACH SVHC: No SVHC; ComponentLink1URL: http://www.bourns.com/docs/Product-Datasheets/SRP6540.pdf?src-supplier=Digi-Key; ComponentLink1Description: http://www.bourns.com/docs/Product-Datasheets/SRP6540.pdf?src-supplier=Digi-Key; ComponentLink2URL: https://www.bourns.com/docs/Product-Datasheets/SRP6540.pdf?src-supplier=Digi-Key; ComponentLink2Description: https://www.bourns.com/docs/Product-Datasheets/SRP6540.pdf?src-supplier=Digi-Key; ComponentLink3URL: http://www.farnell.com/datasheets/1698468.pdf?src-supplier=Element14; ComponentLink3Description: http://www.farnell.com/datasheets/1698468.pdf?src-supplier=Element14; Supplier 2: Digi-Key; Supplier Part Number 2: SRP6540-2R2MCT-ND; Stock 2: 3610; Pricing 2: 1=1.42, 10=1.323, 25=1.2212, 50=1.0176, 100=0.9565, 250=0.85472, 500=0.7326 (USD); Manufacturer Part Number: SRP6540-2R2M
footprint Ind_SRP6540
pins: 1, 2

## IND_POWER_10uH_6.4A_51.8mR
designator L?, comment 10uH/6.4A/51.8mOHM
INDUCTOR 2.2UH 6.4A SMD; Partnumber: IHLP3232DZER100M11; Manufacturer: Vishay Dale; Core Material: Ferrite; Shielding: Shielded; Inductance Tolerance: 20%; Self Resonant Frequency: 12MHz; Current Rating: 5.4A; Inductance: 10uH; DC Resistance (DCR): 51.8mR; Test Frequency: 100kHz; NCM: 8504.50.00; Supplier 1: Mouser; Supplier Part Number 1: 70-IHLP3232DZER100M1; Stock 1: 376; Pricing 1: 1=1.65, 10=1.53, 100=0.738, 1000=0.738, 2500=0.738, 10000=0.738 (USD); Mount: Surface Mount; Case/Package: 3232; Number of Pins: 2; Contact Plating: Tin; Min Operating Temperature: -55°C; Max Operating Temperature: 125°C; Package Quantity: 500; Packaging: Tape and Reel; Tolerance: 20%; Saturation Current: 6.4A; Max DC Current: 5.4A; Termination: SMD/SMT; Military Standard: Not; RMS Current (Irms): 5.4A; Length: 8.89mm; Height: 4mm; Width: 8.18mm; Height - Seated (Max): 0.157inch; Depth: 8.26mm; Radiation Hardening: No; REACH SVHC: Unknown; Lead Free: Lead Free; ComponentLink1URL: http://www.vishay.com/docs/34313/ihlp3232dz11.pdf?src-supplier=Avnet; ComponentLink1Description: http://www.vishay.com/docs/34313/ihlp3232dz11.pdf?src-supplier=Avnet; ComponentLink2URL: http://www.vishay.com/docs/34313/ihlp3232dz11.pdf?src-supplier=Digi-Key; ComponentLink2Description: http://www.vishay.com/docs/34313/ihlp3232dz11.pdf?src-supplier=Digi-Key; ComponentLink3URL: https://www.alliedelec.com/m/d/5924ead94cc8907f6647c63e8202e128.pdf?src-supplier=Allied+Electronics; ComponentLink3Description: https://www.alliedelec.com/m/d/5924ead94cc8907f6647c63e8202e128.pdf?src-supplier=Allied+Electronics; ComponentLink4URL: http://www.farnell.com/datasheets/2045896.pdf?src-supplier=Element14; ComponentLink4Description: http://www.farnell.com/datasheets/2045896.pdf?src-supplier=Element14; ComponentLink5URL: http://www.vishay.com/docs/34313/ihlp3232dz11.pdf?src-supplier=Element14; ComponentLink5Description: http://www.vishay.com/docs/34313/ihlp3232dz11.pdf?src-supplier=Element14; Supplier 2: Digi-Key; Supplier Part Number 2: 541-1346-1-ND; Stock 2: 12872; Pricing 2: 1=1.58, 10=1.466, 25=1.3532, 50=1.1276, 100=1.0599, 250=0.94712 (USD); Manufacturer Part Number: IHLP3232DZER100M11
footprint Ind_IHLP
pins: 1, 2

## IND_POWER_16uH_5A_35.5mR
designator L?, comment 16uH/5A/34.5mOHM
INDUCTOR 16UH 5A SMD; Partnumber: 7443251600; Manufacturer: Wurth Electronics; Self Resonant Frequency: 18MHz; Tolerance: 20%; Shielding: Shielded; Saturation Current: 6.5A; DC Resistance (DCR): 34.5mR; Test Frequency: 100kHz; Series Resistance: 34.5R; NCM: 8504.50.00; Supplier 1: Mouser; Supplier Part Number 1: 710-7443251600; Stock 1: 2659; Pricing 1: 1=4.01, 10=3.94, 25=3.94, 50=3.63, 100=3.48, 250=3.26 (USD); Mount: Surface Mount; Case/Package: Nonstandard; Min Operating Temperature: -40°C; Max Operating Temperature: 150°C; Packaging: Tape and Reel; Inductance Tolerance: 20%; Package Quantity: 700; Current Rating: 5A; Inductance: 16uH; Max DC Current: 5A; Termination: SMD/SMT; Composition: Wirewound; RMS Current (Irms): 5A; Length: 0.413inch; Height: 4.7mm; Height - Seated (Max): 0.197inch; Width: 10.2mm; REACH SVHC: Unknown; ComponentLink1URL: http://www.mouser.com/ds/2/445/7443251600-73993.pdf?src-supplier=Mouser; ComponentLink1Description: http://www.mouser.com/ds/2/445/7443251600-73993.pdf?src-supplier=Mouser; ComponentLink2URL: http://www.farnell.com/datasheets/1735799.pdf?src-supplier=Element14; ComponentLink2Description: http://www.farnell.com/datasheets/1735799.pdf?src-supplier=Element14; ComponentLink3URL: https://www.distrelec.biz/Web/Downloads/_t/ds/7443251600_eng_tds.pdf?mime=application%2Fpdf&src-supplier=Distrelec; ComponentLink3Description: https://www.distrelec.biz/Web/Downloads/_t/ds/7443251600_eng_tds.pdf?mime=application%2Fpdf&src-supplier=Distrelec; ComponentLink4URL: http://katalog.we-online.de/pbs/datasheet/7443251600.pdf?src-supplier=Digi-Key; ComponentLink4Description: http://katalog.we-online.de/pbs/datasheet/7443251600.pdf?src-supplier=Digi-Key; ComponentLink5URL: http://www.produktinfo.conrad.com/datenblaetter/1000000-1099999/001087469-da-01-ml-WE_HCI_SMD_HOCHSTROMIND_7443251600_de_en.pdf?src-supplier=Conrad; ComponentLink5Description: http://www.produktinfo.conrad.com/datenblaetter/1000000-1099999/001087469-da-01-ml-WE_HCI_SMD_HOCHSTROMIND_7443251600_de_en.pdf?src-supplier=Conrad; Supplier 2: Digi-Key; Supplier Part Number 2: 732-4180-1-ND; Stock 2: 2913; Pricing 2: 1=4.01, 10=3.931, 50=3.629, 100=3.478, 250=3.251 (USD); Manufacturer Part Number: 7443251600
footprint IND_744325xxx
pins: 1, 2

## IND_POWER_27uH_4.3A_42.5mR
designator L?, comment 27uH/4.3A/42.5mOHM
INDUCTOR 27UH 4.3A SMD; Partnumber: 7447798271; Manufacturer: Wurth Electronics; Core Material: Metal,Composite,Ferrite; Tolerance: 20%; Self Resonant Frequency: 15MHz; Saturation Current: 3.1A; Shielding: Shielded; DC Resistance (DCR): 42.5mR; Test Frequency: 100kHz; Max DC Current: 3.9A; NCM: 8504.50.00; Supplier 1: Mouser; Supplier Part Number 1: 710-7447798271; Stock 1: 889; Pricing 1: 1=3.34, 10=3.08, 25=3.08, 50=2.97, 100=2.87, 250=2.55 (USD); Mount: Surface Mount; Case/Package: Nonstandard; Min Operating Temperature: -40°C; Max Operating Temperature: 150°C; Inductance: 27uH; Inductance Tolerance: 20%; Package Quantity: 500; Current Rating: 4.3A; Packaging: Tape and Reel; Composition: Wirewound; Termination: SMD/SMT; RMS Current (Irms): 4.3A; Length: 10.2mm; Height: 6.4mm; Width: 0.402inch; Height - Seated (Max): 0.252inch; Depth: 10.2mm; REACH SVHC: Unknown; ComponentLink1URL: http://documents.rs-components.com/techlib://itc_doclist_GB.htm?stockno=7444974&src-supplier=RSComponents; ComponentLink1Description: http://documents.rs-components.com/techlib://itc_doclist_GB.htm?stockno=7444974&src-supplier=RSComponents; ComponentLink2URL: http://katalog.we-online.de/pbs/datasheet/7447798271.pdf?src-supplier=Digi-Key; ComponentLink2Description: http://katalog.we-online.de/pbs/datasheet/7447798271.pdf?src-supplier=Digi-Key; ComponentLink3URL: https://katalog.we-online.de/pbs/datasheet/7447798271.pdf?src-supplier=Digi-Key; ComponentLink3Description: https://katalog.we-online.de/pbs/datasheet/7447798271.pdf?src-supplier=Digi-Key; ComponentLink4URL: http://katalog.we-online.de/pbs/datasheet/7447798271.pdf?src-supplier=Farnell; ComponentLink4Description: http://katalog.we-online.de/pbs/datasheet/7447798271.pdf?src-supplier=Farnell; ComponentLink5URL: http://www.mouser.com/ds/2/445/7447798271-539302.pdf?src-supplier=Mouser; ComponentLink5Description: http://www.mouser.com/ds/2/445/7447798271-539302.pdf?src-supplier=Mouser; Supplier 2: Digi-Key; Supplier Part Number 2: 732-2421-1-ND; Stock 2: 1101; Pricing 2: 1=3.34, 10=3.086, 50=2.979, 100=2.873, 250=2.554 (USD); Manufacturer Part Number: 7447798271
footprint IND_744325xxx
pins: 1, 2

## IND_POWER_100uH_2.2A_150.2mR
designator L?, comment 100uH/2.2/150.2mOHM
MSS1278T-104MLD - 100uH / 2.2A / 150.2mOHM; Supplier 1: Mouser; Supplier Part Number 1: 994-MSS1278T-104MLD
footprint IND_HC9
pins: 1, 2

## IPS1-105-01-S-D
designator CN?
10 Position Receptacle Connector 0.100" (2.54mm); Manufacturer: Samtec; Number of Contacts: 10; Max Voltage Rating (AC): 550V; Number of Ports: 1; Connector Type: Receptacle,Socket; Max Voltage Rating (DC): 777V; Row Spacing: 0.1inch; LatestRevisionDate: 17-Jul-2002; LatestRevisionNote: Re-released for DXP Platform.; Publisher: Altium Limited; Partnumber: IPS1-105-01-S-D; Supplier 1: Mouser; Supplier Part Number 1: 200-IPS110501SD; Stock 1: 1713; Pricing 1: 1=3.15, 10=2.64, 100=2.3, 250=1.98, 500=1.83, 1000=1.68 (USD); Mount: Through Hole; Contact Material: Bronze; Contact Plating: Gold; Number of Terminals: 10; Housing Material: Polymer; Color: Black; Housing Color: Black; Min Operating Temperature: -55°C; Max Operating Temperature: 125°C; Termination: Solder; Gender: Receptacle; Packaging: Rail/Tube; Orientation: Straight; Number of Rows: 2; Number of Positions: 10; Length: 13.08mm; Pitch: 2.54mm; Depth: 4.95mm; Radiation Hardening: No; REACH SVHC: No SVHC; Lead Free: Lead Free; ComponentLink1URL: http://www.samtec.com/documents/webfiles/pdf/ipt1.pdf?src-supplier=Avnet+Europe; ComponentLink1Description: http://www.samtec.com/documents/webfiles/pdf/ipt1.pdf?src-supplier=Avnet+Europe; ComponentLink2URL: http://suddendocs.samtec.com/prints/ips1-1xx-xx-xx-d-xx-mkt.pdf?src-supplier=Digi-Key; ComponentLink2Description: http://suddendocs.samtec.com/prints/ips1-1xx-xx-xx-d-xx-mkt.pdf?src-supplier=Digi-Key; ComponentLink3URL: http://www.samtec.com/documents/webfiles/pdf/ipt1.pdf?src-supplier=Avnet; ComponentLink3Description: http://www.samtec.com/documents/webfiles/pdf/ipt1.pdf?src-supplier=Avnet; Supplier 2: Digi-Key; Supplier Part Number 2: SAM8085-ND; Stock 2: 1507; Pricing 2: 1=3.15, 10=3.024, 100=2.52, 500=2.142, 1000=1.827, 5000=1.638 (USD); Manufacturer Part Number: IPS1-105-01-S-D
footprint IPS1-105-01-S-D (10 Positions Header, Shrouded Connector 0.100" (2.54mm) Through Hole Gold)
signal-integrity model Connector
pins: 1, 2, 3, 4, 5, 6, 7, 8, 9, 10

## LED/G_0805
designator D?, comment LTST-C171GKT
LED Green SMD - Green 569nm LED Indication - Discrete 2.1V 0805 (2012 Metric); NCM: 8541.40.21; Partnumber: LTST-C171GKT
footprint 0805-GREEN-LED
pins: 1 A, 2 K
text: Green

## LED/O_0805
designator D?, comment LTST-C170KFKT
LED Orange SMD - Orange 605nm LED Indication - Discrete 2V 0805 (2012 Metric); Partnumber: LTST-C170KFKT; NCM: 8541.40.21
footprint 0805-ORANGE-LED
pins: 1 A, 2 K
text: Orange

## LED/R_0602
designator D?, comment 150060RS75000
Red 625nm LED Indication - Discrete 2V 0603 (1608 Metric); NCM: 8541.40.21; Partnumber: 150060RS75000
footprint 0603-RED-LED
pins: 1 A, 2 K
text: Red

## LED/R_0805
designator D?, comment APT2012SECK/J3-PRV
LED Red SMD - Red 625nm LED Indication, Discrete 2.2V 0805 (2012 Metric); NCM: 8541.40.21; Partnumber: APT2012SECK/J3-PRV
footprint 0805-RED-LED
pins: 1 A, 2 K
text: Red

## M3 hole
designator MEC?, comment M3  (no BOM)
M3 hole
footprint M3 hole
pins: 0

## MAX9934TAUA+
designator U?
Manufacturer: Maxim; Max Supply Voltage: 3.6V; Min Supply Voltage: 2.5V; Common Mode Rejection Ratio: 128dB; -3db Bandwidth: 1.5kHz; Operating Supply Current: 120uA; Input Offset Voltage (Vos): 10uV; Number of Circuits: 1; Input Bias Current: 35uA; Partnumber: MAX9934TAUA+; Supplier 1: Mouser; Supplier Part Number 1: 700-MAX9934TAUA; Stock 1: 542; Pricing 1: 1=2.18, 10=1.96, 25=1.85, 50=1.85, 100=1.56, 250=1.56 (USD); Case/Package: UMAX; Number of Pins: 8; Min Operating Temperature: -40°C; Max Operating Temperature: 125°C; Packaging: Rail/Tube; Package Quantity: 50; Nominal Supply Current: 120uA; Number of Amplifiers: 1; Bandwidth: 1.5kHz; Radiation Hardening: No; REACH SVHC: Unknown; ComponentLink1URL: https://media.digikey.com/pdf/Data%20Sheets/Maxim%20PDFs/PartNumberBreakdown_ds.pdf?src-supplier=Digi-Key; ComponentLink1Description: https://media.digikey.com/pdf/Data%20Sheets/Maxim%20PDFs/PartNumberBreakdown_ds.pdf?src-supplier=Digi-Key; Supplier 2: Digi-Key; Supplier Part Number 2: MAX9934TAUA+-ND; Stock 2: 2797; Pricing 2: 1=2.35, 10=2.112, 25=1.9964, 100=1.6414, 250=1.55904 (USD); Manufacturer Part Number: MAX9934TAUA+
footprint MSOP-8 (8-Lead Mini Small Outline Package [MSOP] (RM-8))
pins: 1 Vcc, 2 OUT, 3 GND, 4 N.C., 5 N.C., 6 CS, 7 RS-, 8 RS+

## MOSFET-N_30V_SI4166DY
designator Q?, comment MOSFET-N
MOSFET N-Channel 30V Vds 20V Vgs SO-8; Partnumber: SI4166DY-T1-GE3; Manufacturer: Vishay Siliconix; Rds On Max: 3.9mR; Input Capacitance: 2.73nF; Rise Time: 19ns; Continuous Drain Current (ID): 20.5A; Max Power Dissipation: 6.5W; Drain to Source Resistance: 4.5mR; Fall Time: 15ns; Turn-Off Delay Time: 35ns; Turn-On Delay Time: 30ns; Threshold Voltage: 1.2V; Number of Elements: 1; Power Dissipation: 3W; Published: 8-Jun-2000; LatestRevisionDate: 17-Jul-2002; LatestRevisionNote: Re-released for DXP Platform.; PackageVersion: 1995/1996; PackageReference: E3; Publisher: Altium Limited; PackageDescription: TO, Flat Index; 3 In-Line, Axial Leads; Body Dia. 4.6mm; Lead Dia. 0.5 mm (max); Supplier 1: Mouser; Supplier Part Number 1: 781-SI4166DY-T1-GE3; Stock 1: 3322; Pricing 1: 1=1.43, 10=1.21, 100=0.952, 500=0.799, 1000=0.648, 2500=0.648 (USD); Mount: Surface Mount; Case/Package: SOIC; Number of Pins: 8; Weight: 0.006596oz; Contact Plating: Tin,Matte; Min Operating Temperature: -55°C; Max Operating Temperature: 150°C; Package Quantity: 1; Packaging: Tape and Reel; Drain to Source Voltage (Vdss): 30V; Drain to Source Breakdown Voltage: 30V; Gate to Source Voltage (Vgs): 20V; Number of Channels: 1; On-State Resistance: 3.9MR; Length: 5mm; Height: 1.55mm; Width: 4mm; Radiation Hardening: No; REACH SVHC: Unknown; Lead Free: Lead Free; ComponentLink1URL: http://www.vishay.com/docs/68953/si4166dy.pdf?src-supplier=Digi-Key; ComponentLink1Description: http://www.vishay.com/docs/68953/si4166dy.pdf?src-supplier=Digi-Key; ComponentLink2URL: http://www.vishay.com/docs/68953/si4166dy.pdf?src-supplier=Future+Electronics; ComponentLink2Description: http://www.vishay.com/docs/68953/si4166dy.pdf?src-supplier=Future+Electronics; ComponentLink3URL: http://www.mouser.com/ds/2/427/si4166dy-244566.pdf?src-supplier=Mouser; ComponentLink3Description: http://www.mouser.com/ds/2/427/si4166dy-244566.pdf?src-supplier=Mouser; Supplier 2: Digi-Key; Supplier Part Number 2: SI4166DY-T1-GE3CT-ND; Stock 2: 1522; Pricing 2: 1=1.39, 10=1.239, 25=1.176, 100=0.882, 250=0.8736, 500=0.7476, 1000=0.609 (USD); Manufacturer Part Number: SI4166DY-T1-GE3
footprint SOIC8_Mosfet
simulation model NMOS (MOSFET-N)
pins: 1 S, 2 G, 3 D

## MOSFET-P- SI4403CDY-T1-GE3
designator Q?, comment MOSFET-P-SI4403CDY-T1-GE3
MOSFET 1.8V P-Channel 20 V, 0.0155 Ω typ., 13.4 A; Manufacturer: Vishay Siliconix; Continuous Drain Current (ID): 13.4A; Gate to Source Voltage (Vgs): 8V; Input Capacitance: 2.38nF; Rds On Max: 15.5mR; Rise Time: 18ns; Drain to Source Voltage (Vdss): 20V; Max Power Dissipation: 5W; Number of Channels: 1; Fall Time: 41ns; Turn-Off Delay Time: 108ns; Turn-On Delay Time: 7ns; Power Dissipation: 2.5W; Threshold Voltage: -400mV; Published: 8-Jun-2000; LatestRevisionDate: 17-Jul-2002; LatestRevisionNote: Re-released for DXP Platform.; PackageVersion: 1995/1996; PackageReference: E3; Publisher: Altium Limited; PackageDescription: TO, Flat Index; 3 In-Line, Axial Leads; Body Dia. 4.6mm; Lead Dia. 0.5 mm (max); Partnumber: SI4403CDY-T1-GE3; Supplier 1: Mouser; Supplier Part Number 1: 78-SI4403CDY-T1-GE3; Stock 1: 6738; Pricing 1: 1=0.68, 10=0.606, 100=0.472, 500=0.388, 1000=0.327, 2500=0.289 (USD); Mount: Surface Mount; Case/Package: SOIC; Number of Pins: 8; Weight: 0.01787oz; Contact Plating: Tin,Matte; Min Operating Temperature: -55°C; Max Operating Temperature: 150°C; Packaging: Tape and Reel; Package Quantity: 2500; Drain to Source Breakdown Voltage: 20V; Drain to Source Resistance: 15.5mR; Number of Elements: 1; On-State Resistance: 15.5mR; Radiation Hardening: No; REACH SVHC: No SVHC; Lead Free: Lead Free; ComponentLink1URL: http://www.vishay.com/docs/71385/lokreel.pdf?src-supplier=Digi-Key; ComponentLink1Description: http://www.vishay.com/docs/71385/lokreel.pdf?src-supplier=Digi-Key; ComponentLink2URL: http://www.vishay.com/docs/67341/si4403cd.pdf?src-supplier=Avnet; ComponentLink2Description: http://www.vishay.com/docs/67341/si4403cd.pdf?src-supplier=Avnet; ComponentLink3URL: http://www.vishay.com/docs/67341/si4403cd.pdf?src-supplier=Avnet+Europe; ComponentLink3Description: http://www.vishay.com/docs/67341/si4403cd.pdf?src-supplier=Avnet+Europe; ComponentLink4URL: http://www.farnell.com/datasheets/1915828.pdf?src-supplier=Element14; ComponentLink4Description: http://www.farnell.com/datasheets/1915828.pdf?src-supplier=Element14; Supplier 2: Digi-Key; Supplier Part Number 2: SI4403CDY-T1-GE3CT-ND; Stock 2: 1673; Pricing 2: 1=0.75, 10=0.66, 25=0.62, 100=0.45, 250=0.434, 500=0.376, 1000=0.32 (USD); Manufacturer Part Number: SI4403CDY-T1-GE3
footprint SOIC8_Mosfet
simulation model NMOS (MOSFET-N)
pins: 1 S, 2 G, 3 D